# Altium schematic symbol library RTC_DS1307ZN+.SchLib: 1 symbol
Pins are listed as number, name and electrical type; pins without a type are passive.

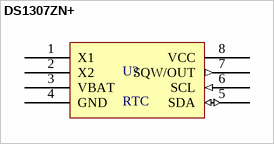
[diagram p0: symbol DS1307ZN+]

## DS1307ZN+
designator U?, comment RTC
RTC I2C DS1307ZN+ SOIC-8; Manufacturer: Maxim Integrated; Reference: DS1307ZN+
pins: 1 X1, 2 X2, 3 VBAT (power), 4 GND (power), 5 SDA (io), 6 SCL (in), 7 SQW/OUT (out), 8 VCC (power)